# Altium schematic symbol library Transistor.SchLib: 11 symbols
Pins are listed as number, name and electrical type; pins without a type are passive.

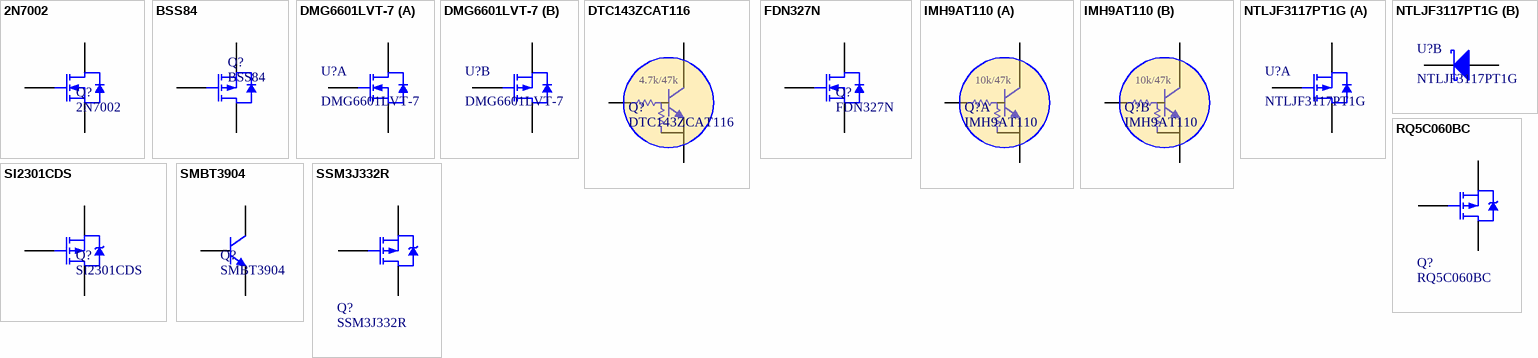
[diagram p0: symbols 2N7002 to SSM3J332R]

## 2N7002
designator Q?
N-channel Enhancement Mode Field-effect Transistor 2N7002; Anunda_Code: M1070; MFG: ON Semiconductor; MFG P/N: 2N7002LT1G; Published: 17-Sep-2003; LatestRevisionDate: 12-Dec-2006; LatestRevisionNote: IPC-7351 Footprint Added.; DatasheetVersion: 27-Jul-2000; PackageVersion: May-1999; PackageReference: SOT23; Publisher: Altium Limited; PackageDescription: 3-Pin SOT-23 Package 0.95 mm Pitch, 2.3 mm Lead Span; Value: 2N7002
simulation model 2N7002 (SUBCKT)
footprint SOT23_N_2
pins: 1 G, 2 S, 3 D

## BSS84
designator Q?
P-channel Enhancement Mode Vertical D-MOSFET BSS84; Anunda_Code: M1904; MFG: Nexperia USA Inc.; MFG P/N: BSS84AK,215; Published: 17-Sep-2003; LatestRevisionDate: 12-Dec-2006; LatestRevisionNote: IPC-7351 Footprint Added.; DatasheetVersion: 18-Jun-1997; PackageVersion: May-1999; PackageReference: SOT23; Publisher: Altium Limited; PackageDescription: 3-Pin SOT-23 Package 0.95 mm Pitch, 2.3 mm Lead Span; Value: BSS84
footprint SOT23_N_2
pins: 1 G, 2 S, 3 D

## DMG6601LVT-7
designator U?
DMG6601LVT-7COMPLEMENTARY PAIR ENHANCEMENT MODE MOSFET; Anunda_Code: M1914; MFG: Diode Incorporated; Value: DMG6601LVT-7; MFG P/N: DMG6601LVT-7
footprint SOT23-6
part A pins: 1 G1, 5 S1, 6 D1
part B pins: 2 S2, 3 G2, 4 D2

## DTC143ZCAT116
designator Q?
DTC143ZCAT116 / Digital Transistor NPN 50V/100mA, 200mW 4.7 kOhm and 47 kOhm Built-in Bias Resistors; Anunda_Code: M2034; ES P/N: 0176-1565-6; MFG: Rohm Semiconductor; Published: 17-Sep-2003; LatestRevisionDate: 12-Dec-2006; LatestRevisionNote: IPC-7351 Footprint Added.; DatasheetVersion: 13-May-2002; PackageVersion: May-1999; PackageReference: SOT23; Publisher: Altium Limited; PackageDescription: 3-Pin SOT-23 Package 0.95 mm Pitch, 2.3 mm Lead Span; Value: DTC143ZCAT116; MFG P/N: DTC143ZCAT116
footprint SOT23_N_2
pins: 1 B, 2 E, 3 C
text: 4.7k/47k

## FDN327N
designator Q?
Transistor FDN327N N-CH 20V 2A MOSFET 0.5W; Anunda_Code: M2008; MFG: ON Semiconductor; Published: 17-Sep-2003; LatestRevisionDate: 12-Dec-2006; LatestRevisionNote: IPC-7351 Footprint Added.; DatasheetVersion: 27-Jul-2000; PackageVersion: May-1999; PackageReference: SOT23; Publisher: Altium Limited; PackageDescription: 3-Pin SOT-23 Package 0.95 mm Pitch, 2.3 mm Lead Span; Value: FDN327N; MFG P/N: FDN327N
simulation model 2N7002 (SUBCKT)
footprint SOT23_N_2
pins: 1 G, 2 S, 3 D

## IMH9AT110
designator Q?
IMH9AT110 / Dual Digital Transistor NPN 50V/100mA,10kO and 47kO Built-in Bias Resistors; Anunda_Code: M2062; ES P/N: 0176-1565-6; MFG: Rohm Semiconductor; Published: 17-Sep-2003; LatestRevisionDate: 12-Dec-2006; LatestRevisionNote: IPC-7351 Footprint Added.; DatasheetVersion: 13-May-2002; PackageVersion: May-1999; PackageReference: SOT457-6; Publisher: Altium Limited; PackageDescription: 6-Pin SOT-457 Package 0.95 mm Pitch, 2.3 mm Lead Span; Value: IMH9AT110; MFG P/N: IMH9AT110
footprint SOT457-6 (SOT457, 6-Leads, Body 2.90x2.80mm, Pitch 0.95mm, IPC Medium Density)
part A pins: 2 B1, 3 E1, 4 C1
part B pins: 1 C2, 5 B2, 6 E2
part A text: 10k/47k
part B text: 10k/47k

## NTLJF3117PT1G
designator U?
Power MOSFET P-CH with Schottky Diode
footprint WDFN6_HS-7N (SON, 6-Leads, Body 2.00x2.00mm, Pitch 0.65mm, Thermal Pad 1.60x0.98mm, IPC Medium Density)
part A pins: 3 D, 4 S, 5 G
part B pins: 1 A, 6 K

## RQ5C060BC
designator Q?
P-Channel Power MOSFET RQ5C060BC; Note: Pin 4 not drawn and electrically connected to Pin 2.; Anunda_Code: M1937; MFG: Rohm Semiconductor; MFG P/N: RQ5C060BCTCL; Published: 8-Jun-2000; LatestRevisionDate: 17-Jul-2002; LatestRevisionNote: Re-released for DXP Platform.; DatasheetVersion: PD-9.390D; PackageVersion: Feb-1997; PackageReference: TO-220AB; Publisher: Altium Limited; PackageDescription: TO, Thru-Hole, Vertical, Heatsink Mounted; 3 In-Line Leads; Pitch 2.54 mm; Value: RQ5C060BC
simulation model IRF9510 (Spice Subcircuit)
footprint SOT-23(SOT-23-3)
pins: 1 G, 2 S, 3 D

## SI2301CDS
designator Q?
SI2301CDS  P-Channel 20V 3.1A (Tc) 860mW (Ta), 1.6W (Tc) Surface Mount SOT-23-3 (TO-236); Note: Pin 4 not drawn and electrically connected to Pin 2.; Published: 8-Jun-2000; LatestRevisionDate: 17-Jul-2002; LatestRevisionNote: Re-released for DXP Platform.; DatasheetVersion: PD-9.390D; PackageVersion: Feb-1997; PackageReference: TO-220AB; Publisher: Altium Limited; Digi-Key: SI2301CDS-T1-GE3CT-ND
footprint SOT23_N_2
pins: 1 G, 2 S, 3 D

## SMBT3904
designator Q?
NPN Switching Transistor  SMBT3904 SOT-23; Anunda_Code: M0292; MFG: Diode Incorporated; MFG P/N: MMBT3904-7-F; Published: 17-Sep-2003; LatestRevisionDate: 12-Dec-2006; LatestRevisionNote: IPC-7351 Footprint Added.; DatasheetVersion: 13-May-2002; PackageVersion: May-1999; PackageReference: SOT23; Publisher: Altium Limited; PackageDescription: 3-Pin SOT-23 Package 0.95 mm Pitch, 2.3 mm Lead Span; Value: SMBT3904
footprint SOT23_N_2
pins: 1 B, 2 E, 3 C

## SSM3J332R
designator Q?
P-Channel Power MOSFET 30V/6A SSM3J332R; Note: Pin 4 not drawn and electrically connected to Pin 2.; Anunda_Code: M2161; MFG: Toshiba Semiconductor and Storage; MFG P/N: SSM3J332R,LF; Published: 8-Jun-2000; LatestRevisionDate: 17-Jul-2002; LatestRevisionNote: Re-released for DXP Platform.; DatasheetVersion: PD-9.390D; PackageVersion: Feb-1997; PackageReference: SOT-23F; Publisher: Altium Limited; PackageDescription: TO, Thru-Hole, Vertical, Heatsink Mounted; 3 In-Line Leads; Pitch 2.54 mm; Value: SSM3J332R
simulation model IRF9510 (Spice Subcircuit)
footprint SOT-23(SOT-23-3)
pins: 1 G, 2 S, 3 D